# EAGLE library part MPT8 (library Corey)
PHOENIX CONNECTOR
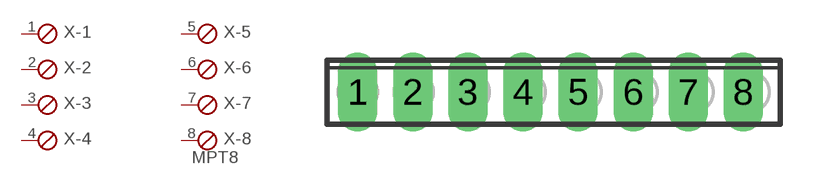
[diagram p2: symbol with the pads of 8POL250; footprint 8POL250]

Designator prefix X; gates -1=SKB -2=SKB -3=SKB -4=SKB -5=SKB -6=SKB -7=SKB -8=SKBV

## MPT8 (OC_FARNELL: unknown; OC_NEWARK: unknown)  [8POL250]
1  -1:1  pas
2  -2:1  pas
3  -3:1  pas
4  -4:1  pas
5  -5:1  pas
6  -6:1  pas
7  -7:1  pas
8  -8:1  pas

## Footprint 8POL250 (pad centres in mm)
PHOENIX CONNECTOR
drill 1.2 long: 1 -8.89,0; 2 -6.39,0; 3 -3.89,0; 4 -1.39,0; 5 1.11,0; 6 3.61,0; 7 6.11,0; 8 8.61,0